# Altium footprint library PCB - LEADED - SOT95P280X145-6N.PCBLIB: 1 footprints
Each footprint in its own frame and in the unit in brackets; x right, y up, seen from the top. Pads: shape width x height; smd on the part's side, far side on the other; paste and mask are expansions set on the pad; w line width, h text height; cw(c..) or ccw(c..) is an arc to the next point about the centre after c.
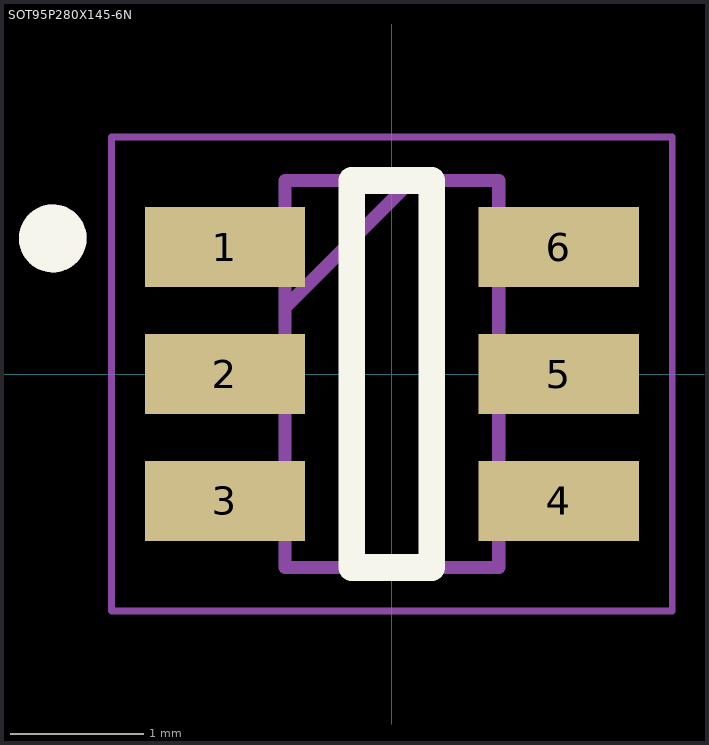
[diagram p0: the footprint, top view; thin cyan lines are the x and y axes]

## SOT95P280X145-6N [mm]
pads (6):
  rect 1.2x0.6 smd: 1(-1.25,0.95) 2(-1.25,0) 3(-1.25,-0.95) 4(1.25,-0.95) 5(1.25,0) 6(1.25,0.95)
Top Overlay:
  circle w0.254: c-2.54,1.016 r0.127
  lines w0.2: -0.3,-1.45 0.3,-1.45 0.3,1.45 -0.3,1.45 -0.3,-1.45
Top Assembly:
  circle w0.254: c-2.54,1.016 r0.127
  lines w0.1: -0.8,0.5 0.15,1.45 ; -0.8,-1.45 0.8,-1.45 0.8,1.45 -0.8,1.45 -0.8,-1.45
Top Courtyard:
  lines w0.05: -2.1,-1.775 2.1,-1.775 2.1,1.775 -2.1,1.775 -2.1,-1.775
Top Value (Mech13):
  text ".Comment" at -0.762,1.905 h1
  text ".Designator" at -0.762,2.667 h1
3D body "SN74LVC1G11DBVRG4.stp": height 1.45, standoff 0, extent -1.4,-1.45 1.4,1.45